# EAGLE library part TLC5916IN (library partlibrary)
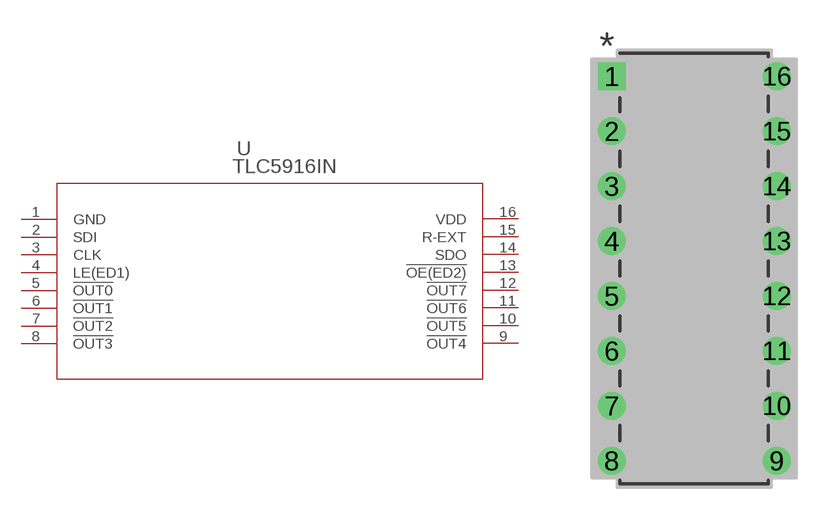
[diagram p1: symbol with the pads of N16; footprint N16]

Designator prefix U

## TLC5916IN (MANUFACTURER_PART_NUMBER: TLC5916IN; VENDOR: Texas Instruments)  [N16]
1  GND  pwr
2  SDI  in
3  CLK  in
4  LE(ED1)  in
5  !OUT0  out
6  !OUT1  out
7  !OUT2  out
8  !OUT3  out
9  !OUT4  out
10  !OUT5  out
11  !OUT6  out
12  !OUT7  out
13  !OE(ED2)  out
14  SDO  out
15  R-EXT  pas
16  VDD  pwr

## Footprint N16 (pad centres in mm)
drill 0.787 pad 1.295 square: 1 -7.62,17.78
drill 0.787 pad 1.295: 2 -7.62,15.24; 3 -7.62,12.7; 4 -7.62,10.16; 5 -7.62,7.62; 6 -7.62,5.08; 7 -7.62,2.54; 8 -7.62,0; 9 0,0; 10 0,2.54; 11 0,5.08; 12 0,7.62; 13 0,10.16; 14 0,12.7; 15 0,15.24; 16 0,17.78